# Altium schematic symbol library RZ_Sch.SchLib: 419 symbols (part 3 of 3)
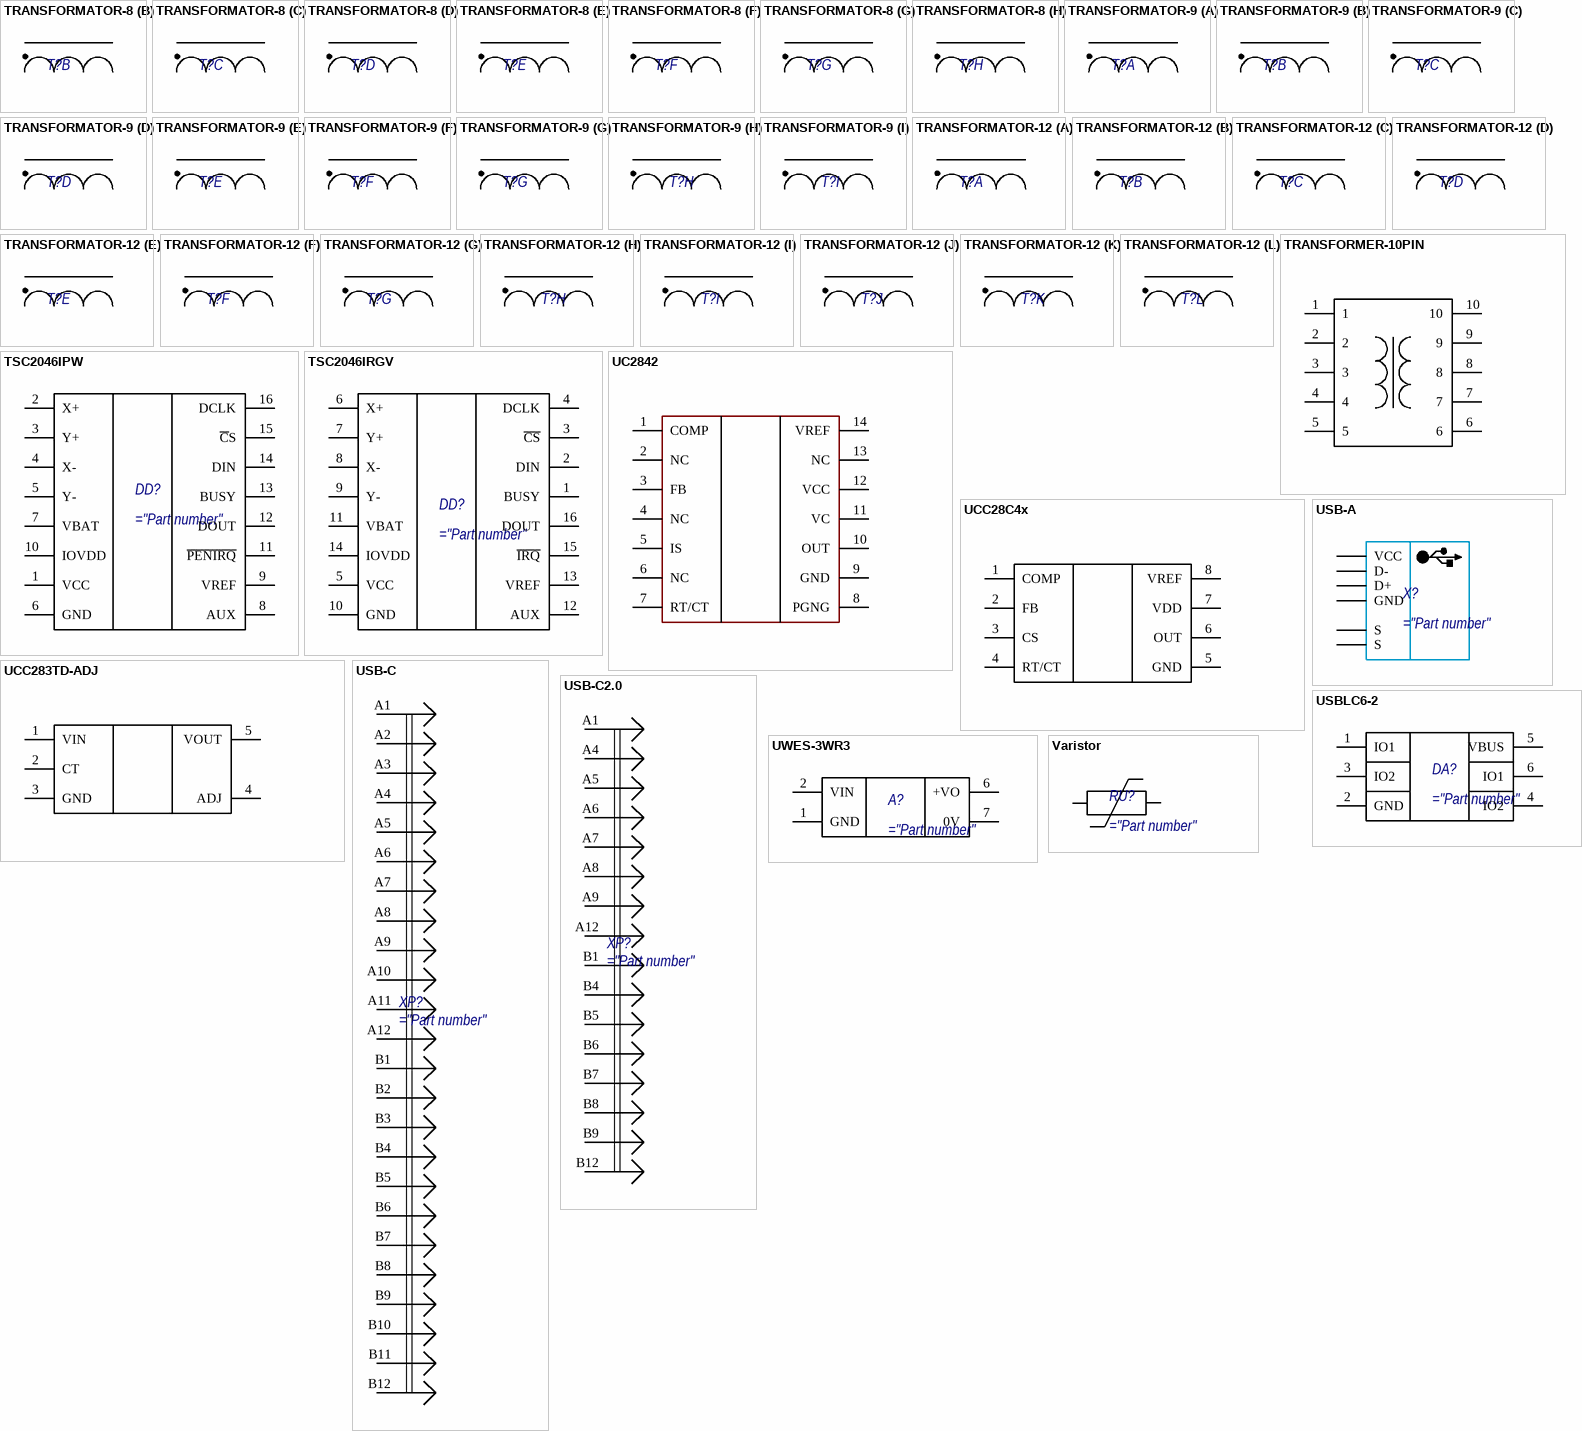
[diagram p36: symbols TRANSFORMATOR-8 to Varistor]

## TRANSFORMATOR-8
designator T?
part A pins: 1, 2
part B pins: 3, 4
part C pins: 5, 6
part D pins: 7, 8
part E pins: 9, 10
part F pins: 11, 12
part G pins: 13, 14
part H pins: 15, 16

## TRANSFORMATOR-9
designator T?
part A pins: 1, 2
part B pins: 3, 4
part C pins: 5, 6
part D pins: 7, 8
part E pins: 9, 10
part F pins: 11, 12
part G pins: 13, 14
part H pins: 15, 16
part I pins: 17, 18

## TRANSFORMATOR-12
designator T?
part A pins: 1, 2
part B pins: 3, 4
part C pins: 5, 6
part D pins: 7, 8
part E pins: 9, 10
part F pins: 11, 12
part G pins: 13, 14
part H pins: 15, 16
part I pins: 17, 18
part J pins: 19, 20
part K pins: 21, 22
part L pins: 23, 24

## TRANSFORMER-10PIN
designator T?
pins: 1 "PA1/USART2_RTS/ADC1_IN1/TIM2_CH2", 2 "PA1/USART2_RTS/ADC1_IN1/TIM2_CH2", 3 "PA1/USART2_RTS/ADC1_IN1/TIM2_CH2", 4 "PA1/USART2_RTS/ADC1_IN1/TIM2_CH2", 5 "PA1/USART2_RTS/ADC1_IN1/TIM2_CH2", 6 "PA1/USART2_RTS/ADC1_IN1/TIM2_CH2", 7 "PA1/USART2_RTS/ADC1_IN1/TIM2_CH2", 8 "PA1/USART2_RTS/ADC1_IN1/TIM2_CH2", 9 "PA1/USART2_RTS/ADC1_IN1/TIM2_CH2", 10 "PA1/USART2_RTS/ADC1_IN1/TIM2_CH2"

## TSC2046IPW
designator DD?
pins: 1 VCC, 2 X+, 3 Y+, 4 X-, 5 Y-, 6 GND, 7 VBAT, 8 AUX, 9 VREF, 10 IOVDD, 11 ~{PENIRQ}, 12 DOUT, 13 BUSY, 14 DIN, 15 ~{C}S, 16 DCLK

## TSC2046IRGV
designator DD?
pins: 1 BUSY, 2 DIN, 3 ~{CS}, 4 DCLK, 5 VCC, 6 X+, 7 Y+, 8 X-, 9 Y-, 10 GND, 11 VBAT, 12 AUX, 13 VREF, 14 IOVDD, 15 ~{IRQ}, 16 DOUT

## UC2842
designator DA?
pins: 1 COMP, 2 NC, 3 FB, 4 NC, 5 IS, 6 NC, 7 RT/CT, 8 PGNG, 9 GND, 10 OUT, 11 VC, 12 VCC, 13 NC, 14 VREF

## UCC28C4x
designator DA?
pins: 1 COMP, 2 FB, 3 CS, 4 RT/CT, 5 GND, 6 OUT, 7 VDD, 8 VREF

## UCC283TD-ADJ
designator DA?
pins: 1 VIN, 2 CT, 3 GND, 4 ADJ, 5 VOUT

## USB-A
designator X?
pins: 1 VCC, 2 D-, 3 D+, 4 GND, 5 S, 6 S

## USB-C
designator XP?
pins: A1, A2, A3, A4, A5, A6, A7, A8, A9, A10, A11, A12, B1, B2, B3, B4, B5, B6, B7, B8, B9, B10, B11, B12

## USB-C2.0
designator XP?
pins: A1, A4, A5, A6, A7, A8, A9, A12, B1, B4, B5, B6, B7, B8, B9, B12

## USBLC6-2
designator DA?
pins: 1 IO1, 2 GND, 3 IO2, 4 IO2, 5 VBUS, 6 IO1

## UWES-3WR3
designator A?
pins: 1 GND, 2 VIN, 6 +VO, 7 0V

## Varistor
designator RU?
pins: 1, 2

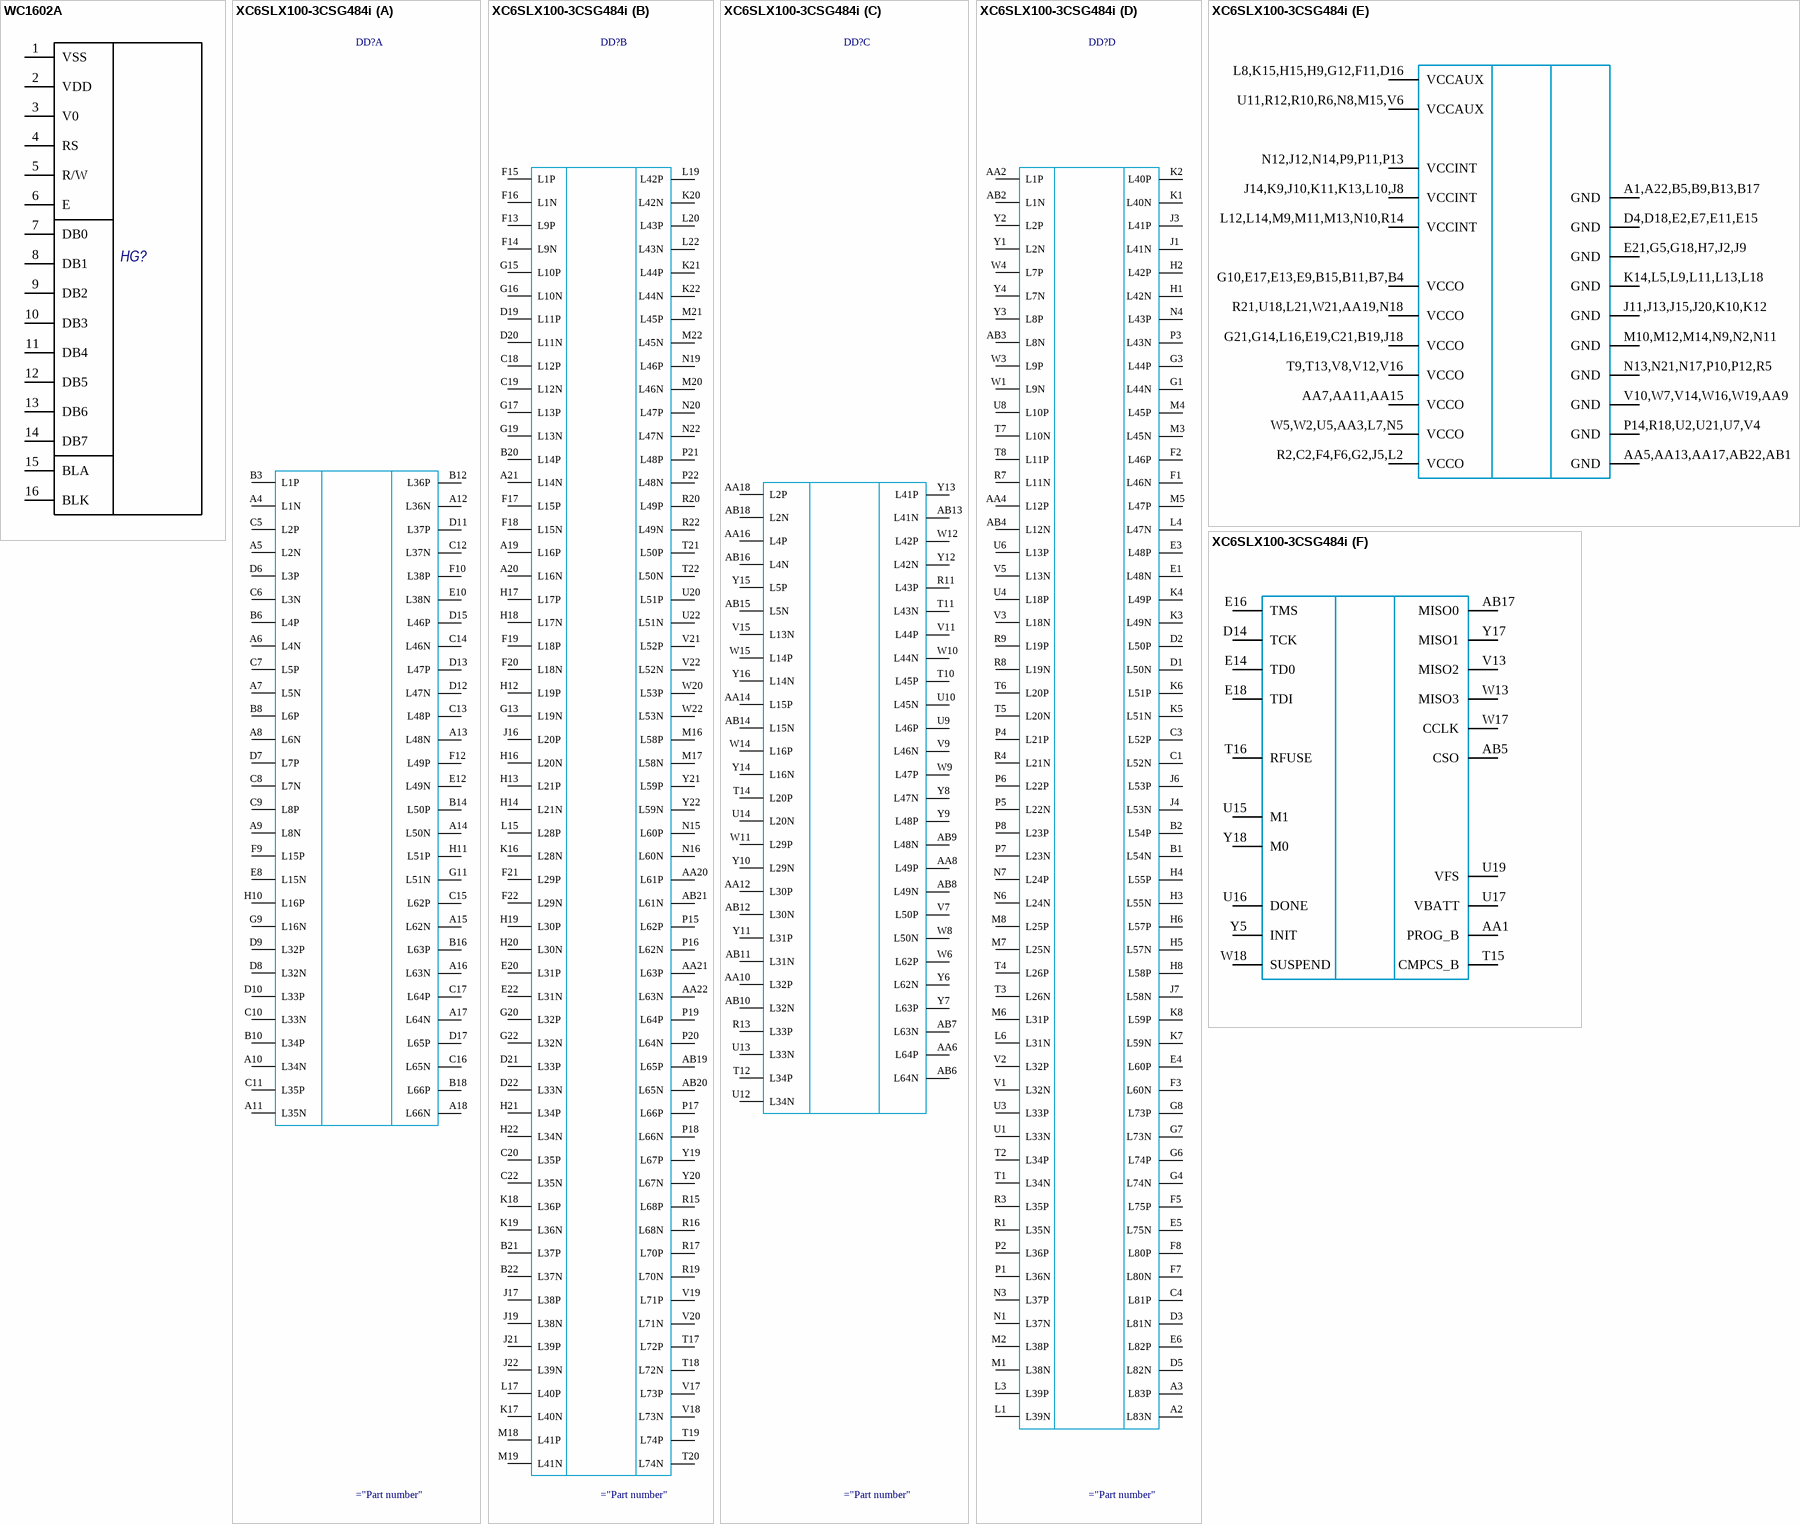
[diagram p32: symbols WC1602A to XC6SLX100-3CSG484i]

## WC1602A
designator HG?
pins: 1 VSS, 2 VDD, 3 V0, 4 RS, 5 R/W, 6 E, 7 DB0, 8 DB1, 9 DB2, 10 DB3, 11 DB4, 12 DB5, 13 DB6, 14 DB7, 15 BLA, 16 BLK

## XC6SLX100-3CSG484i
designator DD?
part A pins: A4 L1N, A5 L2N, A6 L4N, A7 L5N, A8 L6N, A9 L8N, A10 L34N, A11 L35N, A12 L36N, A13 L48N, A14 L50N, A15 L62N, A16 L63N, A17 L64N, A18 L66N, B3 L1P, B6 L4P, B8 L6P, B10 L34P, B12 L36P, B14 L50P, B16 L63P, B18 L66P, C5 L2P, C6 L3N, C7 L5P, C8 L7N, C9 L8P, C10 L33N, C11 L35P, C12 L37N, C13 L48P, C14 L46N, C15 L62P, C16 L65N, C17 L64P, D6 L3P, D7 L7P, D8 L32N, D9 L32P, D10 L33P, D11 L37P, D12 L47N, D13 L47P, D15 L46P, D17 L65P, E8 L15N, E10 L38N, E12 L49N, F9 L15P, F10 L38P, F12 L49P, G9 L16N, G11 L51N, H10 L16P, H11 L51P
part B pins: A19 L16P, A20 L16N, A21 L14N, AA20 L61P, AA21 L63P, AA22 L63N, AB19 L65P, AB20 L65N, AB21 L61N, B20 L14P, B21 L37P, B22 L37N, C18 L12P, C19 L12N, C20 L35P, C22 L35N, D19 L11P, D20 L11N, D21 L33P, D22 L33N, E20 L31P, E22 L31N, F13 L9P, F14 L9N, F15 L1P, F16 L1N, F17 L15P, F18 L15N, F19 L18P, F20 L18N, F21 L29P, F22 L29N, G13 L19N, G15 L10P, G16 L10N, G17 L13P, G19 L13N, G20 L32P, G22 L32N, H12 L19P, H13 L21P, H14 L21N, H16 L20N, H17 L17P, H18 L17N, H19 L30P, H20 L30N, H21 L34P, H22 L34N, J16 L20P, J17 L38P, J19 L38N, J21 L39P, J22 L39N, K16 L28N, K17 L40N, K18 L36P, K19 L36N, K20 L42N, K21 L44P, K22 L44N, L15 L28P, L17 L40P, L19 L42P, L20 L43P, L22 L43N, M16 L58P, M17 L58N, M18 L41P, M19 L41N, M20 L46N, M21 L45P, M22 L45N, N15 L60P, N16 L60N, N19 L46P, N20 L47P, N22 L47N, P15 L62P, P16 L62N, P17 L66P, P18 L66N, P19 L64P, P20 L64N, P21 L48P, P22 L48N, R15 L68P, R16 L68N, R17 L70P, R19 L70N, R20 L49P, R22 L49N, T17 L72P, T18 L72N, T19 L74P, T20 L74N, T21 L50P, T22 L50N, U20 L51P, U22 L51N, V17 L73P, V18 L73N, V19 L71P, V20 L71N, V21 L52P, V22 L52N, W20 L53P, W22 L53N, Y19 L67P, Y20 L67N, Y21 L59P, Y22 L59N
part C pins: AA6 L64P, AA8 L49P, AA10 L32P, AA12 L30P, AA14 L15P, AA16 L4P, AA18 L2P, AB6 L64N, AB7 L63N, AB8 L49N, AB9 L48N, AB10 L32N, AB11 L31N, AB12 L30N, AB13 L41N, AB14 L15N, AB15 L5N, AB16 L4N, AB18 L2N, R11 L43P, R13 L33P, T10 L45P, T11 L43N, T12 L34P, T14 L20P, U9 L46P, U10 L45N, U12 L34N, U13 L33N, U14 L20N, V7 L50P, V9 L46N, V11 L44P, V15 L13N, W6 L62P, W8 L50N, W9 L47P, W10 L44N, W11 L29P, W12 L42P, W14 L16P, W15 L14P, Y6 L62N, Y7 L63P, Y8 L47N, Y9 L48P, Y10 L29N, Y11 L31P, Y12 L42N, Y13 L41P, Y14 L16N, Y15 L5P, Y16 L14N
part D pins: A2 L83N, A3 L83P, AA2 L1P, AA4 L12P, AB2 L1N, AB3 L8N, AB4 L12N, B1 L54N, B2 L54P, C1 L52N, C3 L52P, C4 L81P, D1 L50N, D2 L50P, D3 L81N, D5 L82N, E1 L48N, E3 L48P, E4 L60P, E5 L75N, E6 L82P, F1 L46N, F2 L46P, F3 L60N, F5 L75P, F7 L80N, F8 L80P, G1 L44N, G3 L44P, G4 L74N, G6 L74P, G7 L73N, G8 L73P, H1 L42N, H2 L42P, H3 L55N, H4 L55P, H5 L57N, H6 L57P, H8 L58P, J1 L41N, J3 L41P, J4 L53N, J6 L53P, J7 L58N, K1 L40N, K2 L40P, K3 L49N, K4 L49P, K5 L51N, K6 L51P, K7 L59N, K8 L59P, L1 L39N, L3 L39P, L4 L47N, L6 L31N, M1 L38N, M2 L38P, M3 L45N, M4 L45P, M5 L47P, M6 L31P, M7 L25N, M8 L25P, N1 L37N, N3 L37P, N4 L43P, N6 L24N, N7 L24P, P1 L36N, P2 L36P, P3 L43N, P4 L21P, P5 L22N, P6 L22P, P7 L23N, P8 L23P, R1 L35N, R3 L35P, R4 L21N, R7 L11N, R8 L19N, R9 L19P, T1 L34N, T2 L34P, T3 L26N, T4 L26P, T5 L20N, T6 L20P, T7 L10N, T8 L11P, U1 L33N, U3 L33P, U4 L18P, U6 L13P, U8 L10P, V1 L32N, V2 L32P, V3 L18N, V5 L13N, W1 L9N, W3 L9P, W4 L7P, Y1 L2N, Y2 L2P, Y3 L8P, Y4 L7N
part E pins: A1,A22,B5,B9,B13,B17 GND, AA5,AA13,AA17,AB22,AB1 GND, AA7,AA11,AA15 VCCO, D4,D18,E2,E7,E11,E15 GND, E21,G5,G18,H7,J2,J9 GND, G10,E17,E13,E9,B15,B11,B7,B4 VCCO, G21,G14,L16,E19,C21,B19,J18 VCCO, J11,J13,J15,J20,K10,K12 GND, J14,K9,J10,K11,K13,L10,J8 VCCINT, K14,L5,L9,L11,L13,L18 GND, L8,K15,H15,H9,G12,F11,D16 VCCAUX, L12,L14,M9,M11,M13,N10,R14 VCCINT, M10,M12,M14,N9,N2,N11 GND, N12,J12,N14,P9,P11,P13 VCCINT, N13,N21,N17,P10,P12,R5 GND, P14,R18,U2,U21,U7,V4 GND, R2,C2,F4,F6,G2,J5,L2 VCCO, R21,U18,L21,W21,AA19,N18 VCCO, T9,T13,V8,V12,V16 VCCO, U11,R12,R10,R6,N8,M15,V6 VCCAUX, V10,W7,V14,W16,W19,AA9 GND, W5,W2,U5,AA3,L7,N5 VCCO
part F pins: AA1 PROG_B, AB5 CSO, AB17 MISO0, D14 TCK, E14 TD0, E16 TMS, E18 TDI, T15 CMPCS_B, T16 RFUSE, U15 M1, U16 DONE, U17 VBATT, U19 VFS, V13 MISO2, W13 MISO3, W17 CCLK, W18 SUSPEND, Y5 INIT, Y17 MISO1, Y18 M0

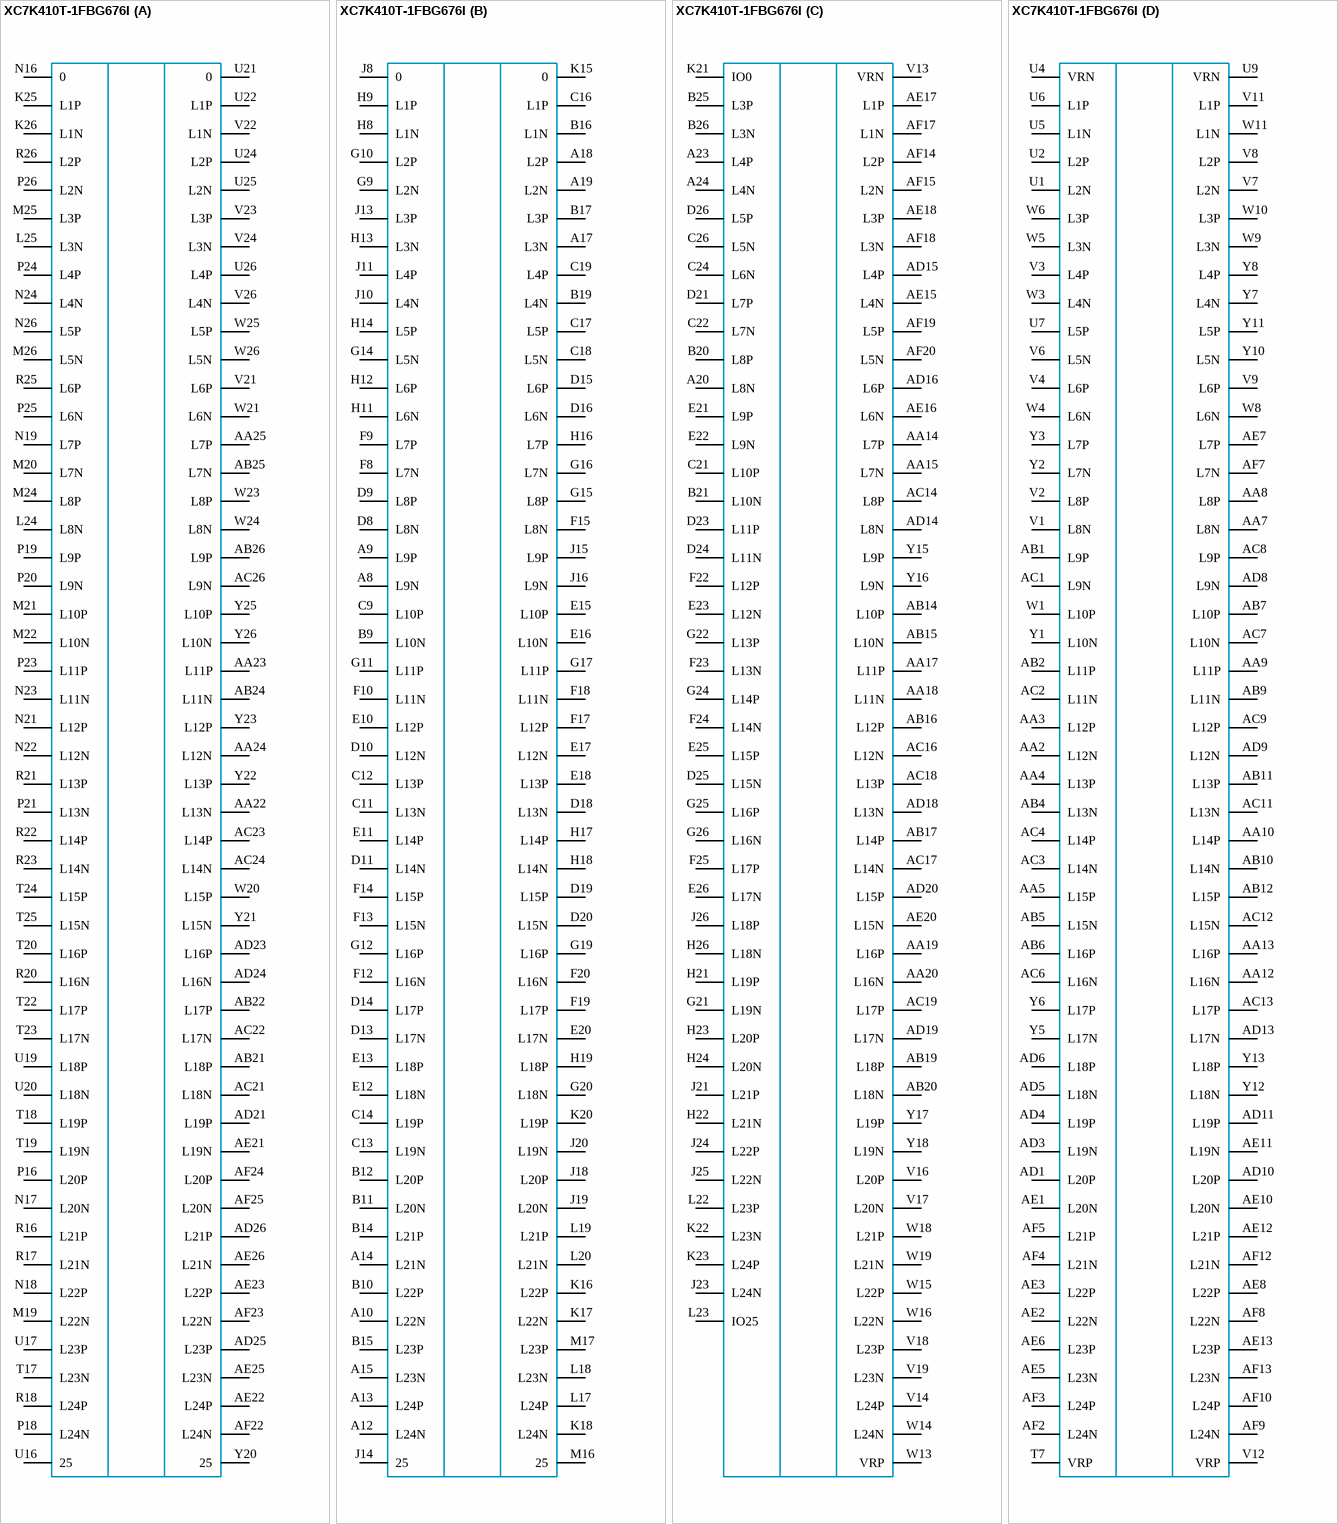
[diagram p33: symbol XC7K410T-1FBG676I]

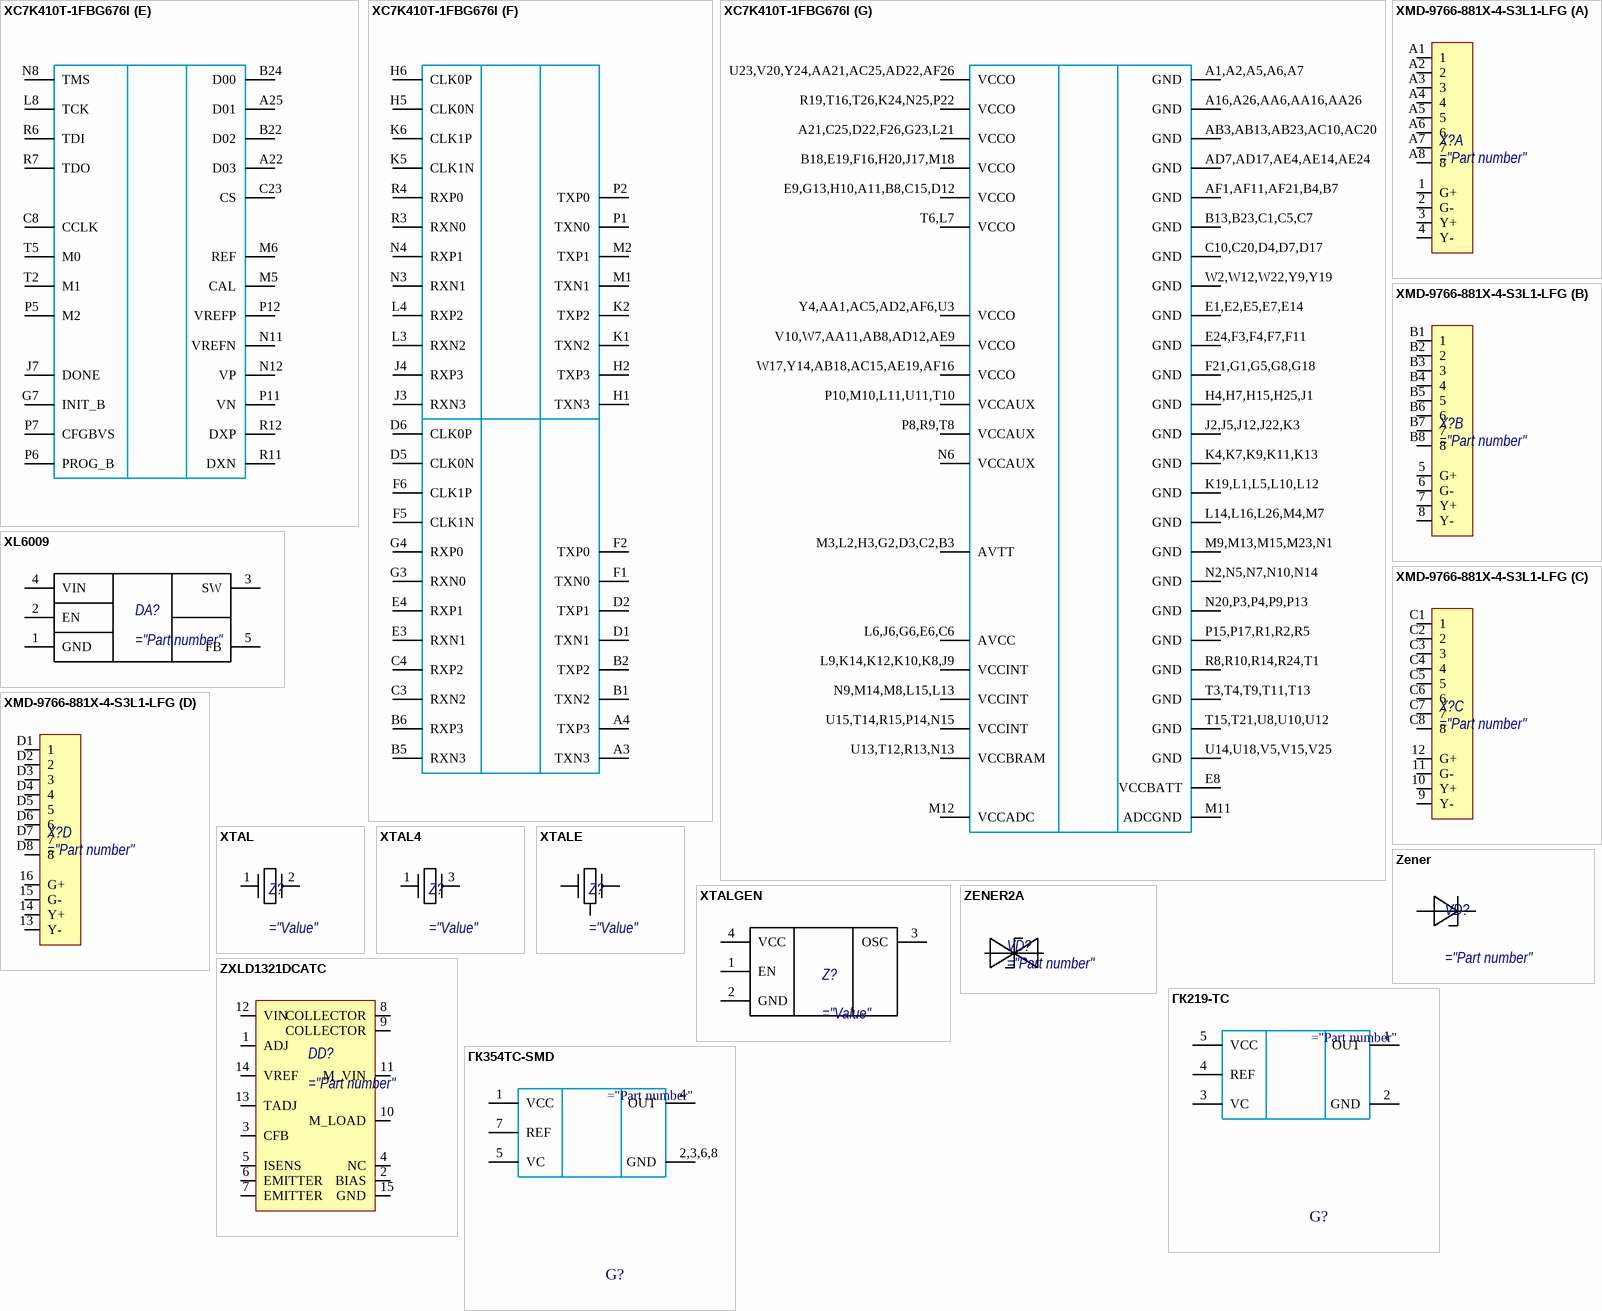
[diagram p34: symbols XC7K410T-1FBG676I to ГК354ТС-SMD]

## XC7K410T-1FBG676I
designator DD?  (value not drawn)
Kintex-7 FPGA, 500 User I/Os, 8 GTX, 676-Ball BGA без крышки (27.x27. e1. h2.54), Speed Grade 1, Industrial Grade (Tj=-40..100C), Pb-Free; Part_Name: XC7K410T-1FBG676I
footprint FBG676 (BGA, 676-Balls, Body 27x27mm, Pitch 1.0mm)
part A pins: AA22 L13N, AA23 L11P, AA24 L12N, AA25 L7P, AB21 L18P, AB22 L17P, AB24 L11N, AB25 L7N, AB26 L9P, AC21 L18N, AC22 L17N, AC23 L14P, AC24 L14N, AC26 L9N, AD21 L19P, AD23 L16P, AD24 L16N, AD25 L23P, AD26 L21P, AE21 L19N, AE22 L24P, AE23 L22P, AE25 L23N, AE26 L21N, AF22 L24N, AF23 L22N, AF24 L20P, AF25 L20N, K25 L1P, K26 L1N, L24 L8N, L25 L3N, M19 L22N, M20 L7N, M21 L10P, M22 L10N, M24 L8P, M25 L3P, M26 L5N, N16 0, N17 L20N, N18 L22P, N19 L7P, N21 L12P, N22 L12N, N23 L11N, N24 L4N, N26 L5P, P16 L20P, P18 L24N, P19 L9P, P20 L9N, P21 L13N, P23 L11P, P24 L4P, P25 L6N, P26 L2N, R16 L21P, R17 L21N, R18 L24P, R20 L16N, R21 L13P, R22 L14P, R23 L14N, R25 L6P, R26 L2P, T17 L23N, T18 L19P, T19 L19N, T20 L16P, T22 L17P, T23 L17N, T24 L15P, T25 L15N, U16 25, U17 L23P, U19 L18P, U20 L18N, U21 0, U22 L1P, U24 L2P, U25 L2N, U26 L4P, V21 L6P, V22 L1N, V23 L3P, V24 L3N, V26 L4N, W20 L15P, W21 L6N, W23 L8P, W24 L8N, W25 L5P, W26 L5N, Y20 25, Y21 L15N, Y22 L13P, Y23 L12P, Y25 L10P, Y26 L10N
part B pins: A8 L9N, A9 L9P, A10 L22N, A12 L24N, A13 L24P, A14 L21N, A15 L23N, A17 L3N, A18 L2P, A19 L2N, B9 L10N, B10 L22P, B11 L20N, B12 L20P, B14 L21P, B15 L23P, B16 L1N, B17 L3P, B19 L4N, C9 L10P, C11 L13N, C12 L13P, C13 L19N, C14 L19P, C16 L1P, C17 L5P, C18 L5N, C19 L4P, D8 L8N, D9 L8P, D10 L12N, D11 L14N, D13 L17N, D14 L17P, D15 L6P, D16 L6N, D18 L13N, D19 L15P, D20 L15N, E10 L12P, E11 L14P, E12 L18N, E13 L18P, E15 L10P, E16 L10N, E17 L12N, E18 L13P, E20 L17N, F8 L7N, F9 L7P, F10 L11N, F12 L16N, F13 L15N, F14 L15P, F15 L8N, F17 L12P, F18 L11N, F19 L17P, F20 L16N, G9 L2N, G10 L2P, G11 L11P, G12 L16P, G14 L5N, G15 L8P, G16 L7N, G17 L11P, G19 L16P, G20 L18N, H8 L1N, H9 L1P, H11 L6N, H12 L6P, H13 L3N, H14 L5P, H16 L7P, H17 L14P, H18 L14N, H19 L18P, J8 0, J10 L4N, J11 L4P, J13 L3P, J14 25, J15 L9P, J16 L9N, J18 L20P, J19 L20N, J20 L19N, K15 0, K16 L22P, K17 L22N, K18 L24N, K20 L19P, L17 L24P, L18 L23N, L19 L21P, L20 L21N, M16 25, M17 L23P
part C pins: A20 L8N, A23 L4P, A24 L4N, AA14 L7P, AA15 L7N, AA17 L11P, AA18 L11N, AA19 L16P, AA20 L16N, AB14 L10P, AB15 L10N, AB16 L12P, AB17 L14P, AB19 L18P, AB20 L18N, AC14 L8P, AC16 L12N, AC17 L14N, AC18 L13P, AC19 L17P, AD14 L8N, AD15 L4P, AD16 L6P, AD18 L13N, AD19 L17N, AD20 L15P, AE15 L4N, AE16 L6N, AE17 L1P, AE18 L3P, AE20 L15N, AF14 L2P, AF15 L2N, AF17 L1N, AF18 L3N, AF19 L5P, AF20 L5N, B20 L8P, B21 L10N, B25 L3P, B26 L3N, C21 L10P, C22 L7N, C24 L6N, C26 L5N, D21 L7P, D23 L11P, D24 L11N, D25 L15N, D26 L5P, E21 L9P, E22 L9N, E23 L12N, E25 L15P, E26 L17N, F22 L12P, F23 L13N, F24 L14N, F25 L17P, G21 L19N, G22 L13P, G24 L14P, G25 L16P, G26 L16N, H21 L19P, H22 L21N, H23 L20P, H24 L20N, H26 L18N, J21 L21P, J23 L24N, J24 L22P, J25 L22N, J26 L18P, K21 IO0, K22 L23N, K23 L24P, L22 L23P, L23 IO25, V13 VRN, V14 L24P, V16 L20P, V17 L20N, V18 L23P, V19 L23N, W13 VRP, W14 L24N, W15 L22P, W16 L22N, W18 L21P, W19 L21N, Y15 L9P, Y16 L9N, Y17 L19P, Y18 L19N
part D pins: AA2 L12N, AA3 L12P, AA4 L13P, AA5 L15P, AA7 L8N, AA8 L8P, AA9 L11P, AA10 L14P, AA12 L16N, AA13 L16P, AB1 L9P, AB2 L11P, AB4 L13N, AB5 L15N, AB6 L16P, AB7 L10P, AB9 L11N, AB10 L14N, AB11 L13P, AB12 L15P, AC1 L9N, AC2 L11N, AC3 L14N, AC4 L14P, AC6 L16N, AC7 L10N, AC8 L9P, AC9 L12P, AC11 L13N, AC12 L15N, AC13 L17P, AD1 L20P, AD3 L19N, AD4 L19P, AD5 L18N, AD6 L18P, AD8 L9N, AD9 L12N, AD10 L20P, AD11 L19P, AD13 L17N, AE1 L20N, AE2 L22N, AE3 L22P, AE5 L23N, AE6 L23P, AE7 L7P, AE8 L22P, AE10 L20N, AE11 L19N, AE12 L21P, AE13 L23P, AF2 L24N, AF3 L24P, AF4 L21N, AF5 L21P, AF7 L7N, AF8 L22N, AF9 L24N, AF10 L24P, AF12 L21N, AF13 L23N, T7 VRP, U1 L2N, U2 L2P, U4 VRN, U5 L1N, U6 L1P, U7 L5P, U9 VRN, V1 L8N, V2 L8P, V3 L4P, V4 L6P, V6 L5N, V7 L2N, V8 L2P, V9 L6P, V11 L1P, V12 VRP, W1 L10P, W3 L4N, W4 L6N, W5 L3N, W6 L3P, W8 L6N, W9 L3N, W10 L3P, W11 L1N, Y1 L10N, Y2 L7N, Y3 L7P, Y5 L17N, Y6 L17P, Y7 L4N, Y8 L4P, Y10 L5N, Y11 L5P, Y12 L18N, Y13 L18P
part E pins: A22 D03, A25 D01, B22 D02, B24 D00, C8 CCLK, C23 CS, G7 INIT_B, J7 DONE, L8 TCK, M5 CAL, M6 REF, N8 TMS, N11 VREFN, N12 VP, P5 M2, P6 PROG_B, P7 CFGBVS, P11 VN, P12 VREFP, R6 TDI, R7 TDO, R11 DXN, R12 DXP, T2 M1, T5 M0
part F pins: A3 TXN3, A4 TXP3, B1 TXN2, B2 TXP2, B5 RXN3, B6 RXP3, C3 RXN2, C4 RXP2, D1 TXN1, D2 TXP1, D5 CLK0N, D6 CLK0P, E3 RXN1, E4 RXP1, F1 TXN0, F2 TXP0, F5 CLK1N, F6 CLK1P, G3 RXN0, G4 RXP0, H1 TXN3, H2 TXP3, H5 CLK0N, H6 CLK0P, J3 RXN3, J4 RXP3, K1 TXN2, K2 TXP2, K5 CLK1N, K6 CLK1P, L3 RXN2, L4 RXP2, M1 TXN1, M2 TXP1, N3 RXN1, N4 RXP1, P1 TXN0, P2 TXP0, R3 RXN0, R4 RXP0
part G pins: A1,A2,A5,A6,A7 GND, A16,A26,AA6,AA16,AA26 GND, A21,C25,D22,F26,G23,L21 VCCO, AB3,AB13,AB23,AC10,AC20 GND, AD7,AD17,AE4,AE14,AE24 GND, AF1,AF11,AF21,B4,B7 GND, B13,B23,C1,C5,C7 GND, B18,E19,F16,H20,J17,M18 VCCO, C10,C20,D4,D7,D17 GND, E1,E2,E5,E7,E14 GND, E8 VCCBATT, E9,G13,H10,A11,B8,C15,D12 VCCO, E24,F3,F4,F7,F11 GND, F21,G1,G5,G8,G18 GND, H4,H7,H15,H25,J1 GND, J2,J5,J12,J22,K3 GND, K4,K7,K9,K11,K13 GND, K19,L1,L5,L10,L12 GND, L6,J6,G6,E6,C6 AVCC, L9,K14,K12,K10,K8,J9 VCCINT, L14,L16,L26,M4,M7 GND, M3,L2,H3,G2,D3,C2,B3 AVTT, M9,M13,M15,M23,N1 GND, M11 ADCGND, M12 VCCADC, N2,N5,N7,N10,N14 GND, N6 VCCAUX, N9,M14,M8,L15,L13 VCCINT, N20,P3,P4,P9,P13 GND, P8,R9,T8 VCCAUX, P10,M10,L11,U11,T10 VCCAUX, P15,P17,R1,R2,R5 GND, R8,R10,R14,R24,T1 GND, R19,T16,T26,K24,N25,P22 VCCO, T3,T4,T9,T11,T13 GND, T6,L7 VCCO, T15,T21,U8,U10,U12 GND, U13,T12,R13,N13 VCCBRAM, U14,U18,V5,V15,V25 GND, U15,T14,R15,P14,N15 VCCINT, U23,V20,Y24,AA21,AC25,AD22,AF26 VCCO, V10,W7,AA11,AB8,AD12,AE9 VCCO, W2,W12,W22,Y9,Y19 GND, W17,Y14,AB18,AC15,AE19,AF16 VCCO, Y4,AA1,AC5,AD2,AF6,U3 VCCO

## XL6009
designator DA?
pins: 1 GND, 2 EN, 3 SW, 4 VIN, 5 FB

## XMD-9766-881X-4-S3L1-LFG
designator X?
part A pins: 1 G+, 2 G-, 3 Y+, 4 Y-, A1 1, A2 2, A3 3, A4 4, A5 5, A6 6, A7 7, A8 8
part B pins: 5 G+, 6 G-, 7 Y+, 8 Y-, B1 1, B2 2, B3 3, B4 4, B5 5, B6 6, B7 7, B8 8
part C pins: 9 Y-, 10 Y+, 11 G-, 12 G+, C1 1, C2 2, C3 3, C4 4, C5 5, C6 6, C7 7, C8 8
part D pins: 13 Y-, 14 Y+, 15 G-, 16 G+, D1 1, D2 2, D3 3, D4 4, D5 5, D6 6, D7 7, D8 8

## XTAL
designator Z?
pins: 1 OSC1, 2 OSC2

## XTAL4
designator Z?
pins: 1 OSC1, 3 OSC2

## XTALE
designator Z?
pins: 1 OSC1, 3 OSC2, E

## XTALGEN
designator Z?
pins: 1 EN, 2 GND, 3 OSC, 4 VCC

## Zener
designator VD?
pins: A, C

## ZENER2A
designator VD?
pins: A, C

## ZXLD1321DCATC
designator DD?
pins: 1 ADJ, 2 BIAS, 3 CFB, 4 NC, 5 ISENS, 6 EMITTER, 7 EMITTER, 8 COLLECTOR, 9 COLLECTOR, 10 M_LOAD, 11 M_VIN, 12 VIN, 13 TADJ, 14 VREF, 15 GND

## ГК219-ТС
designator G?
footprint ГК354-ТС-SMD
pins: 1 OUT, 2 GND, 3 VC, 4 REF, 5 VCC

## ГК354ТС-SMD
designator G?
footprint ГК354-ТС-SMD
pins: 1 VCC, 2,3,6,8 GND, 4 OUT, 5 VC, 7 REF